# Altium schematic symbol library TE Tactile Switches.SchLib: 2 symbols
Pins are listed as number, name and electrical type; pins without a type are passive.

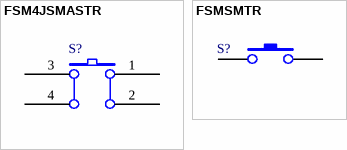
[diagram p0: symbols FSM4JSMASTR to FSMSMTR]

## FSM4JSMASTR
designator S?
Tactile Switch SPST-NO Top Actuated Surface Mount; Manufacturer: TE Connectivity; PartNumber: FSM4JSMASTR; Package: SW_4PIN_S_6.0X6.0MM; PackageDescription: Surface Mount Switch, 4 Leads, Body 6.0*6.0mm, Pitch 4.5mm/8.4mm; Supplier 1: Digi-Key; Supplier Part Number 1: 450-2141-6-ND
footprint SW_4PIN_S_6.0X6.0MM (SMD 4-Pin, Body 7x5mm, IPC Medium Density)
footprint SW_4PIN_S_6.0X6.0MM (SMD 4-Pin, Body 7x5mm, IPC Medium Density)
3D model FSM4JSMASTR (PCB3D Model)
pins: 1, 2, 3, 4

## FSMSMTR
designator S?
Tactile Switch SPST-NO Top Actuated Surface Mount; Manufacturer: TE Connectivity; PartNumber: FSMSMTR; Package: SW_2PIN_S_6.0x3.5mm; PackageDescription: Surface Mount Switch, 2 Leads, Body 6.0*3.5mm, Pitch 9.19mm; Supplier 1: Digi-Key; Supplier Part Number 1: 450-1758-2-ND
footprint SW_2PIN_S_6.0x3.5mm (Tact Switch, 2 Leads, Body 6.00(L) x 3.00(W) x 5.00(H) mm)
3D model FSMSMTR (PCB3D Model)
pins: 1, 2